# Altium integrated library Altium_WL-TIRC_rev22c.IntLib: 4 symbols
Pins are listed as number, name and electrical type; pins without a type are passive.

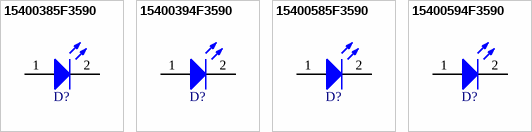
[diagram p0: symbols 15400385F3590 to 15400594F3590]

## 15400385F3590
designator D?, comment Infrared, 1.5V, 30°  (value not drawn)
WL-TIRC THT Infrared Round Waterclear, 3mm, 60mW/sr, Infrared, 1.5V, 30°; Manufacturer Part Number: 15400385F3590; Manufacturer: Wurth Elektronik; Centroid Wavelength: 845nm; Chip Technology: AlGaAs; Category: Infrared LEDs; Match Code: WL-TIRC; ComponentLink1Description: Website Link; ComponentLink1URL: https://www.we-online.com/redexpert/article/15400385F3590?ad; ComponentLink2Description: Datasheet Link; ComponentLink2URL: https://www.we-online.com/redexpert/spec/15400385F3590?ad; Mount: Through Hole; Operating Temperature Max: 85°C; Operating Temperature Min: -40°C; Packaging: Bulk; Height: 5.3mm; Diameter: 3.85mm; Emitting Color: Infrared; Forward Voltage: 1.5V; Radiant Intensity: 60mW/sr; Viewing Angle: 30°
footprint WL-TIRC_3mm
simulation model THT_3mm_15400385F3590
pins: 1 A, 2 K

## 15400394F3590
designator D?, comment Infrared, 1.3V, 30°  (value not drawn)
WL-TIRC THT Infrared Round Waterclear, 3mm, 30mW/sr, Infrared, 1.3V, 30°; Manufacturer Part Number: 15400394F3590; Manufacturer: Wurth Elektronik; Centroid Wavelength: 940nm; Chip Technology: AlGaAs; Category: Infrared LEDs; Match Code: WL-TIRC; ComponentLink1Description: Website Link; ComponentLink1URL: https://www.we-online.com/redexpert/article/15400394F3590?ad; ComponentLink2Description: Datasheet Link; ComponentLink2URL: https://www.we-online.com/redexpert/spec/15400394F3590?ad; Mount: Through Hole; Operating Temperature Max: 85°C; Operating Temperature Min: -40°C; Packaging: Bulk; Height: 5.3mm; Diameter: 3.85mm; Emitting Color: Infrared; Forward Voltage: 1.3V; Radiant Intensity: 30mW/sr; Viewing Angle: 30°
footprint WL-TIRC_3mm
simulation model THT_3mm_15400394F3590
pins: 1 A, 2 K

## 15400585F3590
designator D?, comment Infrared, 1.5V, 30°  (value not drawn)
WL-TIRC THT Infrared Round Waterclear, 5mm, 85mW/sr, Infrared, 1.5V, 30°; Manufacturer Part Number: 15400585F3590; Manufacturer: Wurth Elektronik; Centroid Wavelength: 845nm; Chip Technology: AlGaAs; Category: Infrared LEDs; Match Code: WL-TIRC; ComponentLink1Description: Website Link; ComponentLink1URL: https://www.we-online.com/redexpert/article/15400585F3590?ad; ComponentLink2Description: Datasheet Link; ComponentLink2URL: https://www.we-online.com/redexpert/spec/15400585F3590?ad; Mount: Through Hole; Operating Temperature Max: 85°C; Operating Temperature Min: -40°C; Packaging: Bulk; Height: 8.7mm; Diameter: 5.8mm; Emitting Color: Infrared; Forward Voltage: 1.5V; Radiant Intensity: 85mW/sr; Viewing Angle: 30°
footprint WL-TIRC_5mm
simulation model THT_5mm_15400585F3590
pins: 1 A, 2 K

## 15400594F3590
designator D?, comment Infrared, 1.3V, 30°  (value not drawn)
WL-TIRC THT Infrared Round Waterclear, 5mm, 30mW/sr, Infrared, 1.3V, 30°; Manufacturer Part Number: 15400594F3590; Manufacturer: Wurth Elektronik; Centroid Wavelength: 940nm; Chip Technology: AlGaAs; Category: Infrared LEDs; Match Code: WL-TIRC; ComponentLink1Description: Website Link; ComponentLink1URL: https://www.we-online.com/redexpert/article/15400594F3590?ad; ComponentLink2Description: Datasheet Link; ComponentLink2URL: https://www.we-online.com/redexpert/spec/15400594F3590?ad; Mount: Through Hole; Operating Temperature Max: 85°C; Operating Temperature Min: -40°C; Packaging: Bulk; Height: 8.7mm; Diameter: 5.8mm; Emitting Color: Infrared; Forward Voltage: 1.3V; Radiant Intensity: 30mW/sr; Viewing Angle: 30°
footprint WL-TIRC_5mm
simulation model THT_5mm_15400594F3590
pins: 1 A, 2 K